# EAGLE library part IMU_LSM9DS1 (library custom_harsh)
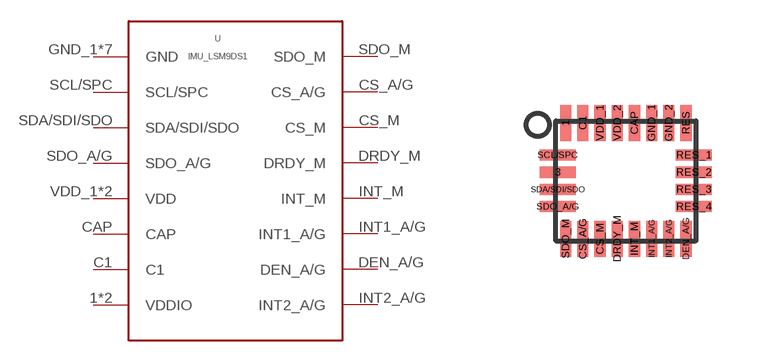
[diagram p0: symbol with the pads of IMU_LSM9DS1; footprint IMU_LSM9DS1]

Designator prefix U

## IMU_LSM9DS1-LSM9DS1 (CREATOR: Harsh; DIST: Digikey; DISTPN: 497-14946-1-ND)  [IMU_LSM9DS1]
1  VDDIO
3  VDDIO
C1  C1
CAP  CAP
CS_A/G  CS_A/G
CS_M  CS_M
DEN_A/G  DEN_A/G
DRDY_M  DRDY_M
GND_1  GND
GND_2  GND
INT1_A/G  INT1_A/G
INT2_A/G  INT2_A/G
INT_M  INT_M
RES  GND
RES_1  GND
RES_2  GND
RES_3  GND
RES_4  GND
SCL/SPC  SCL/SPC
SDA/SDI/SDO  SDA/SDI/SDO
SDO_A/G  SDO_A/G
SDO_M  SDO_M
VDD_1  VDD
VDD_2  VDD

## Footprint IMU_LSM9DS1 (pad centres in mm)
28-QFN, 0.50 mm pitch, 4.00 X 5.00 X 1.00 mm body 28-pin QFN package with 0.50 mm pitch with body size 4.00 X 5.00 X 1.00 mm
smd 0.28 x 0.9: 1 -1.505,1.45; C1 -1.075,1.45; CAP 0.215,1.45; CS_A/G -1.075,-1.45; CS_M -0.645,-1.45; DEN_A/G 1.505,-1.45; DRDY_M -0.215,-1.45; GND_1 0.645,1.45; GND_2 1.075,1.45; INT1_A/G 0.645,-1.45; INT2_A/G 1.075,-1.45; INT_M 0.215,-1.45; RES 1.505,1.45; SDO_M -1.505,-1.45; VDD_1 -0.645,1.45; VDD_2 -0.215,1.45
smd 0.9 x 0.28: 3 -1.7,0.215; RES_1 1.7,0.645; RES_2 1.7,0.215; RES_3 1.7,-0.215; RES_4 1.7,-0.645; SCL/SPC -1.7,0.645; SDA/SDI/SDO -1.7,-0.215; SDO_A/G -1.7,-0.645